# Altium schematic symbol library Cap_Murata_GRM31CR71E106MA12L_10uF.SchLib: 1 symbol
Pins are listed as number, name and electrical type; pins without a type are passive.

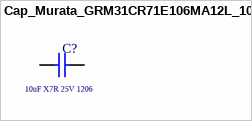
[diagram p0: symbol Cap_Murata_GRM31CR71E106MA12L_10uF]

## Cap_Murata_GRM31CR71E106MA12L_10uF
designator C?  Capacitance: 10uF X7R 25V 1206  (hidden comment: Cap_Murata_GRM31CR71E106MA12L_10uF)
CAP CER 10uF 25V X7R 1206; Supplier 1: Mouser; Supplier Part Number 1: 81-GRM31CR71E106MA2L
footprint Cap_Murata_GRM31CR71E106MA12L_10uF
pins: 1, 2